# EAGLE library part TPS61089 (library Eagle_CAD_parts)
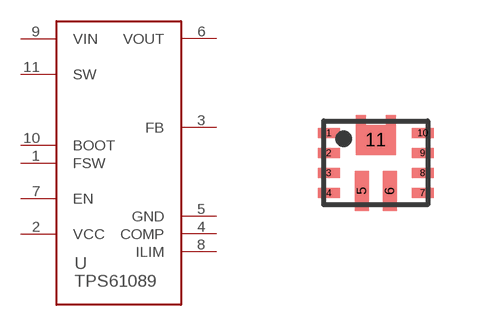
[diagram p63: symbol with the pads of 11-VQFN; footprint 11-VQFN]

Designator prefix U

## TPS61089 (DIGIKEY_PART_NUMBER: 296-47295-1-ND; IOUT: 7 A; MANUFACTURER_PART_NUMBER: TPS61089RNRR; VIN: 2.7 V - 12 V; VOUT: 4.5 V - 12.6 V)  [11-VQFN]
1  FSW
2  VCC
3  FB
4  COMP
5  GND
6  VOUT
7  EN
8  ILIM
9  VIN
10  BOOT
11  SW

## Footprint 11-VQFN (pad centres in mm)
smd 0.55 x 0.25: 1 -1.175,0.75; 2 -1.175,0.25; 3 -1.175,-0.25; 4 -1.175,-0.75; 7 1.175,-0.75; 8 1.175,-0.25; 9 1.175,0.25; 10 1.175,0.75
smd 0.35 x 1: 5 -0.35,-0.7; 6 0.35,-0.7
smd 0.5 x 0.5: 11 0,0.57